# EAGLE library part LSM6DS33 (library robotter_ic)
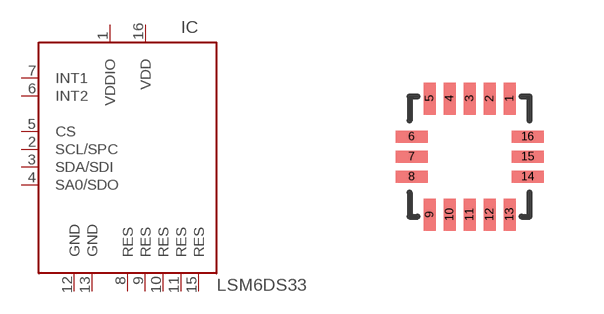
[diagram p29: symbol with the pads of LGA16; footprint LGA16]

Designator prefix IC

## LSM6DS33 (VALUE: LSM6DS33)  [LGA16]
1  VDDIO  pwr
2  SCL/SPC
3  SDA/SDI
4  SA0/SDO
5  CS
6  INT2  out
7  INT1  out
8  RES
9  RES
10  RES
11  RES
12  GND  pwr
13  GND  pwr
15  RES
16  VDD  pwr

## Footprint LGA16 (pad centres in mm)
smd 0.3 x 0.8: 1 1,1.45; 2 0.5,1.45; 3 0,1.45; 4 -0.5,1.45; 5 -1,1.45; 9 -1,-1.45; 10 -0.5,-1.45; 11 0,-1.45; 12 0.5,-1.45; 13 1,-1.45
smd 0.8 x 0.3: 6 -1.45,0.5; 7 -1.45,0; 8 -1.45,-0.5; 14 1.45,-0.5; 15 1.45,0; 16 1.45,0.5